# Altium footprint library WSHP28183L000FEA.PcbLib: 1 footprints
Each footprint in its own frame and in the unit in brackets; x right, y up, seen from the top. Pads: shape width x height; smd on the part's side, far side on the other; paste and mask are expansions set on the pad; w line width, h text height; cw(c..) or ccw(c..) is an arc to the next point about the centre after c.
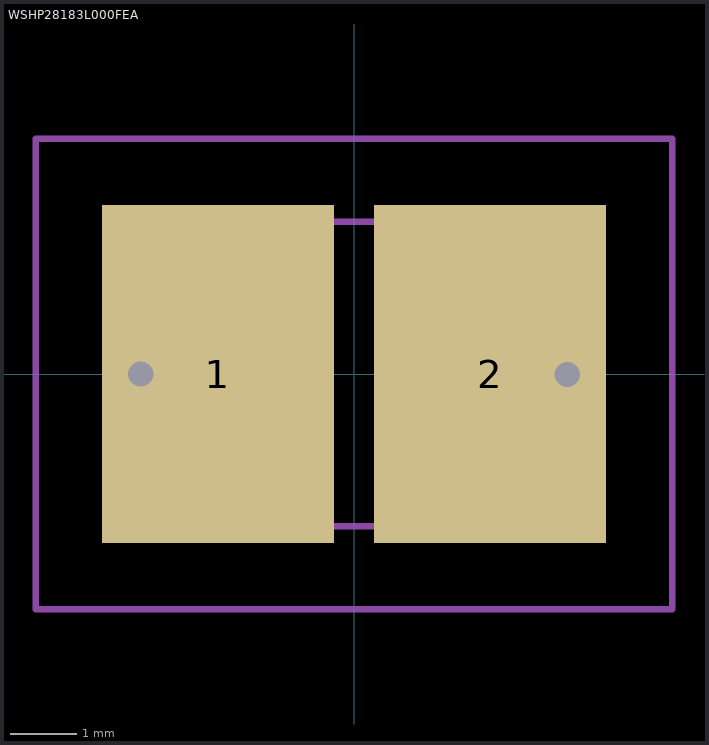
[diagram p0: the footprint, top view; thin cyan lines are the x and y axes]

## WSHP28183L000FEA [mm]
pads (2):
  rect 3.5x5.1 smd: 1(-2.055,0) 2(2.055,0)
via -3.222,0 diameter 0.762 hole 0.381
via 3.22,-0.007 diameter 0.762 hole 0.381
Mechanical 15:
  lines w0.1: -3.55,-2.3 -3.55,2.3 3.55,2.3 3.55,-2.3 -3.55,-2.3
Mechanical 20:
  lines w0.1: -4.805,-3.55 -4.805,3.55 4.805,3.55 4.805,-3.55 -4.805,-3.55